# Altium footprint library Cloud_Buck_Footprints.PcbLib: 21 footprints (part 2 of 2)
Each footprint in its own frame and in the unit in brackets; x right, y up, seen from the top. Pads: shape width x height; smd on the part's side, far side on the other; paste and mask are expansions set on the pad; w line width, h text height; cw(c..) or ccw(c..) is an arc to the next point about the centre after c.
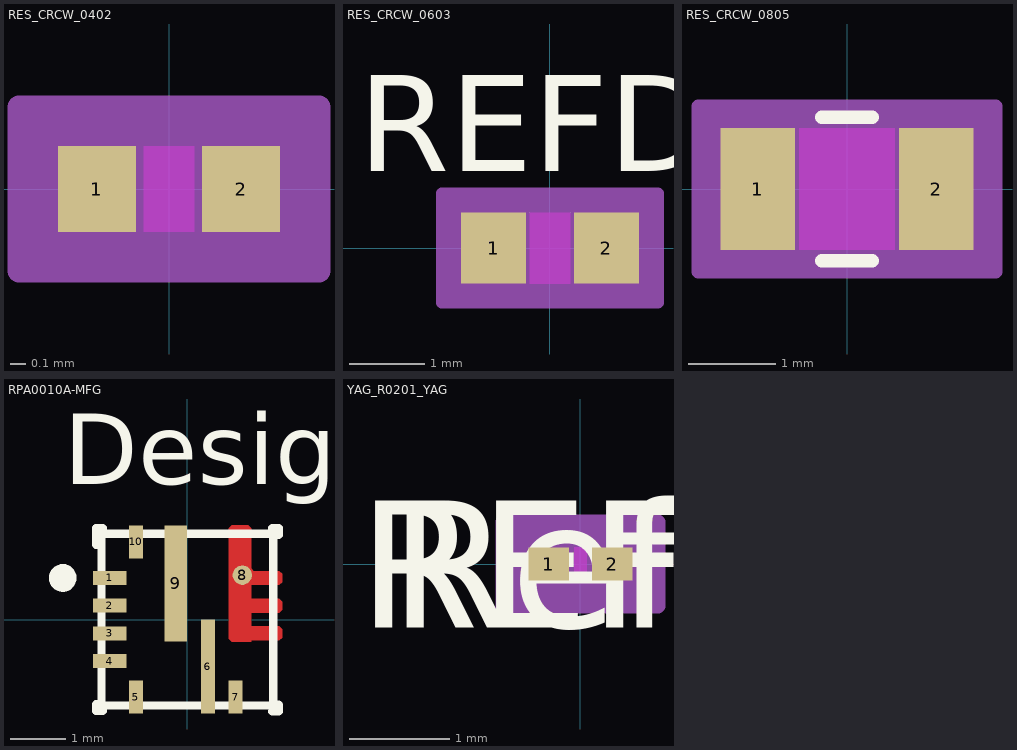
[diagram p1: the footprints below, top view; thin cyan lines are the x and y axes]

## RES_CRCW_0402 [mil]
pads (2):
  rect 20x22 smd paste-11 mask-11: 1(-18.5,0) 2(18.5,0)
Top Layer keep-out:
  region: -6.5,-9 -6.5,9 6.5,9 6.5,-9
Top Overlay:
  text ".Designator" at -137.5,-25 h50
Keep-Out Layer:
  region: -6.5,-11 -6.5,11 6.5,11 6.5,-11
Mechanical 13:
  lines w1: -20.5,-11 -20.5,11 ; -20.5,-11 20.5,-11 ; -20.5,-11 -8.5,-11 -8.5,11 -20.5,11 ; -20.5,-11 -20.5,11 ; -20.5,11 20.5,11 ; 20.5,-11 20.5,11 ; 20.5,-11 20.5,11 ; 20.5,-11 8.5,-11 8.5,11 20.5,11
  text ".Designator" at -137.5,-25 h50
Mechanical 15:
  region: 38.5,-21 -38.5,-21 -38.5,21 38.5,21
  lines w6: -38.5,-21 38.5,-21 38.5,21 -38.5,21 -38.5,-21
3D body "RES_CRCW_0402.step": height 15.98, standoff 0, extent -20.51,-10.98 20.51,10.98

## RES_CRCW_0603 [mil]
pads (2):
  rect 33.78x37 smd paste+0 mask+0: 1(-29.39,0) 2(29.39,0)
Top Layer keep-out:
  region: -10.5,-16.5 -10.5,16.5 10.5,16.5 10.5,-16.5
Top Overlay:
  text "REFDES" at -100,40 h50
Keep-Out Layer:
  region: -10.5,-18.5 -10.5,18.5 10.5,18.5 10.5,-18.5
Mechanical 13:
  lines w1: -32.5,-18.5 -32.5,18.5 ; -32.5,-18.5 -12.5,-18.5 -12.5,18.5 -32.5,18.5 ; -32.5,-18.5 32.5,-18.5 ; -32.5,-18.5 -32.5,18.5 ; -32.5,18.5 32.5,18.5 ; 32.5,-18.5 12.5,-18.5 12.5,18.5 32.5,18.5 ; 32.5,-18.5 32.5,18.5 ; 32.5,-18.5 32.5,18.5
Mechanical 15:
  region: 56.28,-28.5 -56.28,-28.5 -56.28,28.5 56.28,28.5
  lines w6: -56.28,-28.5 -56.28,28.5 56.28,28.5 56.28,-28.5 -56.28,-28.5
3D body "RES_CRCW_0603.step": height 20, standoff 0, extent -32.52,-18.5 32.52,18.5

## RES_CRCW_0805 [mil]
pads (2):
  rect 33.78x55 smd paste+0 mask+0: 1(-40.39,0) 2(40.39,0)
Top Layer keep-out:
  region: -21.5,-25.5 -21.5,25.5 21.5,25.5 21.5,-25.5
Top Overlay:
  lines w6: -11.39,-32.5 11.39,-32.5 ; -11.39,32.5 11.39,32.5
  text ".Designator" at -137.5,-25 h50
Keep-Out Layer:
  region: -21.5,-27.5 -21.5,27.5 21.5,27.5 21.5,-27.5
Mechanical 13:
  lines w1: -43.5,-27.5 -43.5,27.5 ; -43.5,-27.5 -23.5,-27.5 -23.5,27.5 -43.5,27.5 ; -43.5,-27.5 43.5,-27.5 ; -43.5,-27.5 -43.5,27.5 ; -43.5,27.5 43.5,27.5 ; 43.5,-27.5 23.5,-27.5 23.5,27.5 43.5,27.5 ; 43.5,-27.5 43.5,27.5 ; 43.5,-27.5 43.5,27.5
  text ".Designator" at -137.5,-25 h50
Mechanical 15:
  region: 67.28,-37.5 -67.28,-37.5 -67.28,37.5 67.28,37.5
  lines w6: -67.28,-37.5 -67.28,37.5 67.28,37.5 67.28,-37.5 -67.28,-37.5
3D body "RES_CRCW_0805.step": height 20, standoff 0, extent -43.5,-27.48 43.5,27.48

## RPA0010A-MFG [mm]
pads (10):
  rect 0.6x0.25 smd paste+0 mask+0: 1(-1.4,0.75) 2(-1.4,0.25) 3(-1.4,-0.25) 4(-1.4,-0.75)
  rect 0.25x0.6 smd paste+0 mask+0: 5(-0.93,-1.4) 7(0.87,-1.4) 10(-0.93,1.4)
  rect 0.25x1.7 smd paste-0.837 mask+0: 6(0.37,-0.85)
  round 0.35 smd paste+0 mask+0: 8(0.99,0.8)
  rect 0.4x2.1 smd paste-1.037 mask+0: 9(-0.21,0.65)
Top Layer:
  region: 1.1,1.7 0.8,1.7 0.75,1.65 0.75,-0.35 0.8,-0.4 1.15,-0.4 1.15,-0.375 1.66,-0.375 1.71,-0.325 1.71,-0.175 1.66,-0.125 1.15,-0.125 1.15,0.125 1.66,0.125 1.71,0.175 1.71,0.325 1.66,0.375 1.15,0.375 1.15,0.625 1.66,0.625 1.71,0.675 1.71,0.825 1.66,0.875 1.2,0.875 1.15,0.925 1.15,1.65
Top Overlay:
  circle w0.25: c-2.25,0.75 r0.125
  lines w0.15: -1.65,-1.53 -1.65,-1.65 -1.53,-1.65 ; -1.65,1.35 -1.65,1.65 -1.53,1.65 ; 1.53,-1.66 1.65,-1.66 1.65,-1.54 ; 1.53,1.65 1.65,1.65 ; 1.65,1.525 1.65,1.645 ; -1.55,-1.55 1.55,-1.55 1.55,1.55 -1.55,1.55 -1.55,-1.55
  text ".Designator" at -3.492,-0.635 h1.27
  text "Designator8" at -2.235,2.438 h1.27
Top Paste:
  region: 1.1,1.7 0.8,1.7 0.75,1.65 0.75,-0.35 0.8,-0.4 1.15,-0.4 1.15,-0.375 1.66,-0.375 1.71,-0.325 1.71,-0.175 1.66,-0.125 1.15,-0.125 1.15,0.125 1.66,0.125 1.71,0.175 1.71,0.325 1.66,0.375 1.15,0.375 1.15,0.625 1.66,0.625 1.71,0.675 1.71,0.825 1.66,0.875 1.2,0.875 1.15,0.925 1.15,1.65
  region: -0.41,1.655 -0.36,1.705 -0.06,1.705 -0.01,1.655 -0.01,0.805 -0.06,0.755 -0.36,0.755 -0.41,0.805
  region: -0.36,-0.395 -0.41,-0.345 -0.41,0.505 -0.36,0.555 -0.06,0.555 -0.01,0.505 -0.01,-0.345 -0.06,-0.395
  region: 0.295,-1.705 0.245,-1.655 0.245,-1.005 0.295,-0.955 0.445,-0.955 0.495,-1.005 0.495,-1.655 0.445,-1.705
  region: 0.295,-0.005 0.445,-0.005 0.495,-0.055 0.495,-0.705 0.445,-0.755 0.295,-0.755 0.245,-0.705 0.245,-0.055
Top Solder:
  region: 1.1,1.7 0.8,1.7 0.75,1.65 0.75,-0.35 0.8,-0.4 1.15,-0.4 1.15,-0.375 1.66,-0.375 1.71,-0.325 1.71,-0.175 1.66,-0.125 1.15,-0.125 1.15,0.125 1.66,0.125 1.71,0.175 1.71,0.325 1.66,0.375 1.15,0.375 1.15,0.625 1.66,0.625 1.71,0.675 1.71,0.825 1.66,0.875 1.2,0.875 1.15,0.925 1.15,1.65
Mechanical 13:
  text ".Designator" at -3.492,-0.635 h1.27

## YAG_R0201_YAG [mil]
pads (2):
  rect 16x13 smd paste+0 mask+0: 1(-12.5,0) 2(12.5,0)
Top Layer keep-out:
  region: -2.5,-4.5 -2.5,4.5 2.5,4.5 2.5,-4.5
Top Overlay:
  text "REFDES" at -87.5,-25 h50
  text "RefDes" at -75,-25 h50
Keep-Out Layer:
  region: -2.5,-6.5 -2.5,6.5 2.5,6.5 2.5,-6.5
Mechanical 13:
  lines w1: -12.5,-6.5 -12.5,6.5 ; -12.5,-6.5 12.5,-6.5 ; -12.5,-6.5 -4.5,-6.5 -4.5,6.5 -12.5,6.5 ; -12.5,-6.5 -12.5,6.5 ; -12.5,6.5 12.5,6.5 ; 12.5,-6.5 12.5,6.5 ; 12.5,-6.5 12.5,6.5 ; 12.5,-6.5 4.5,-6.5 4.5,6.5 12.5,6.5
  text "RefDes2" at -87.5,-25 h50
Mechanical 15:
  region: 30.5,-16.5 -30.5,-16.5 -30.5,16.5 30.5,16.5
  lines w6: -30.5,-16.5 30.5,-16.5 30.5,16.5 -30.5,16.5 -30.5,-16.5
3D body "YAG_R0201_YAG.step": height 10, standoff 0, extent -12.52,-6.5 12.52,6.5